# Altium schematic symbol library Table Clock.SchLib: 40 symbols
Pins are listed as number, name and electrical type; pins without a type are passive.

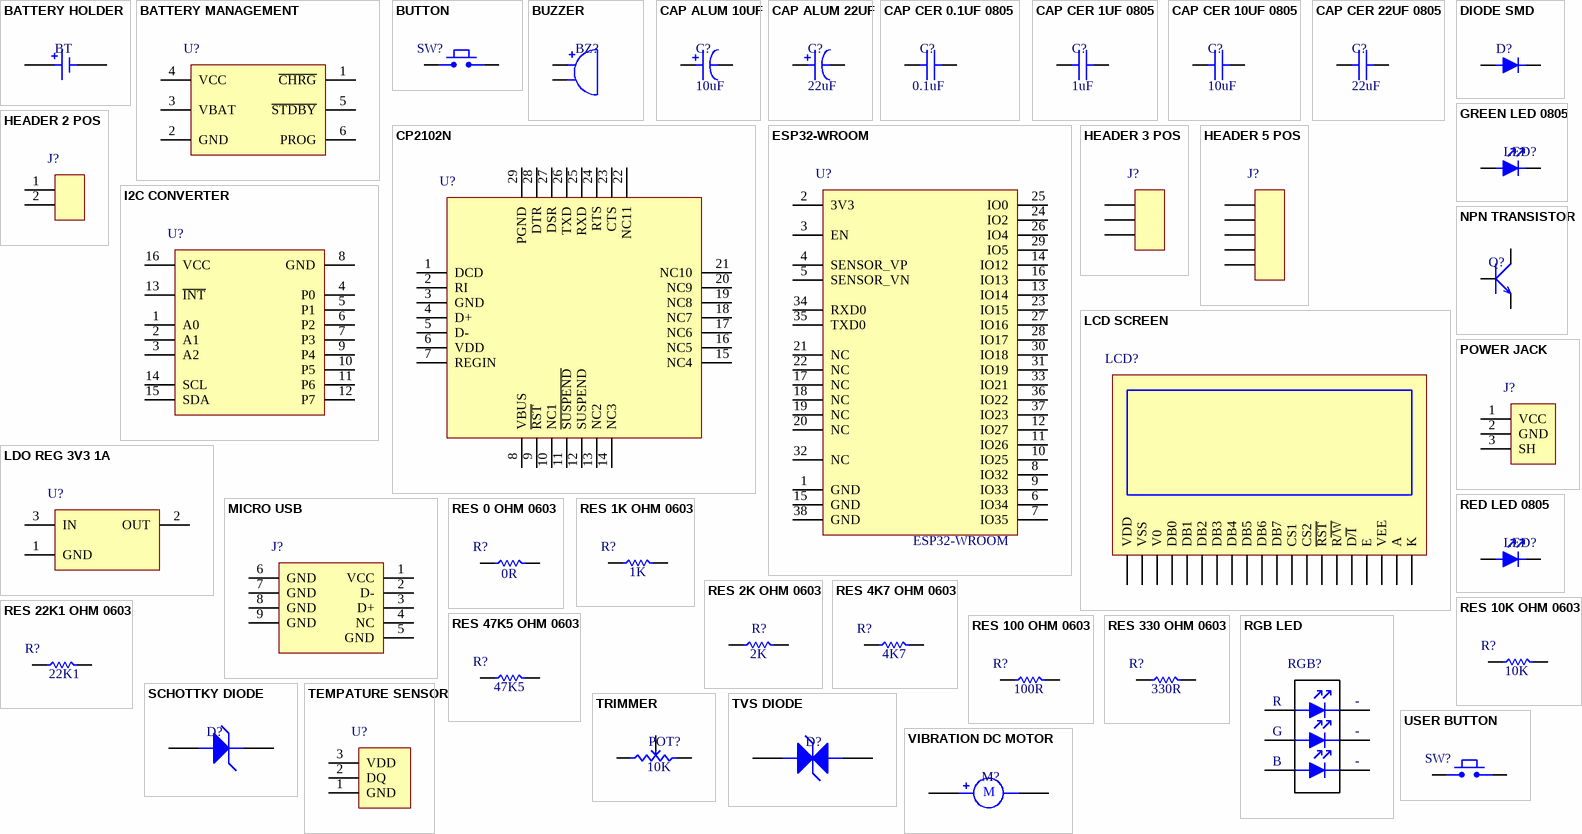
[diagram p0: symbols BATTERY HOLDER to VIBRATION DC MOTOR]

## BATTERY HOLDER
designator BT, comment BH-18650-PC  (value not drawn)
BATTERY HOLDER 18650 PC PIN
footprint BATTERY HOLDER
pins: 1, 2

## BATTERY MANAGEMENT
designator U?, comment TP4057  (value not drawn)
SOT23-6 BATTERY MANAGEMENT
footprint SOT23-6
pins: 1 ~{CHRG}, 2 GND, 3 VBAT, 4 VCC, 5 ~{STDBY}, 6 PROG

## BUTTON
designator SW?, comment PTS636SM43SMTR LFS  (value not drawn)
SWITCH TACTILE 0.05A 12V
footprint BUTTON
pins: 1, 2

## BUZZER
designator BZ?, comment CMI-9605IC-0580T  (value not drawn)
BUZZER MAGNETIC 5V 9.6MM TH
footprint BUZZER
pins: 1, 2

## CAP ALUM 10UF
designator C?, comment value 10uF  (hidden comment: 875105359001)
CAP ALUM 10UF 20% 16V SMD; ComponentLink1Description: New link; ComponentLink1URL: *
footprint CAP ALUM 10UF
pins: 1, 2

## CAP ALUM 22UF
designator C?, comment value 22uF  (hidden comment: A766EB226M1DLAE060)
CAP ALUM 22UF 20% 20V SMD
footprint CAP ALUM 22UF
pins: 1, 2

## CAP CER 0.1UF 0805
designator C?, comment value 0.1uF  (hidden comment: CC0805KRX7R9BB104)
CAP CER 0.1UF 50V X7R 0805
footprint CAP 0805
pins: 1, 2

## CAP CER 1UF 0805
designator C?, comment value 1uF  (hidden comment: CC0805KKX7R9BB105)
CAP CER 1UF 50V X7R 0805
footprint CAP 0805
pins: 1, 2

## CAP CER 10UF 0805
designator C?, comment value 10uF  (hidden comment: CC0805KKX5R8BB106)
CAP CER 10UF 25V X5R 0805
footprint CAP 0805
pins: 1, 2

## CAP CER 22UF 0805
designator C?, comment value 22uF  (hidden comment: GRM21BR61E226ME44L)
CAP CER 22UF 25V X5R 0805
footprint CAP 0805
pins: 1, 2

## CP2102N
designator U?, comment CP2102N-A02-GQFN28  (value not drawn)
IC USB TO UART BRIDGE QFN28
footprint QFN28
pins: 1 DCD, 2 RI, 3 GND, 4 D+, 5 D-, 6 VDD, 7 REGIN, 8 VBUS, 9 ~{RST}, 10 NC1, 11 ~{SUSPEND}, 12 SUSPEND, 13 NC2, 14 NC3, 15 NC4, 16 NC5, 17 NC6, 18 NC7, 19 NC8, 20 NC9, 21 NC10, 22 NC11, 23 CTS, 24 RTS, 25 RXD, 26 TXD, 27 DSR, 28 DTR, 29 PGND

## DIODE SMD
designator D?, comment MBR230LSFT1G  (value not drawn)
DIODE SCHOTTKY 30V 2A
footprint DIODE
pins: 1, 2

## ESP32-WROOM
designator U?, comment value ESP32-WROOM  (hidden comment: ESP32-WROOM-32E-H4)
RF TXRX MOD BT WIFI TH SMD
footprint ESP32
pins: 1 GND, 2 3V3, 3 EN, 4 SENSOR_VP, 5 SENSOR_VN, 6 IO34, 7 IO35, 8 IO32, 9 IO33, 10 IO25, 11 IO26, 12 IO27, 13 IO14, 14 IO12, 15 GND, 16 IO13, 17 NC, 18 NC, 19 NC, 20 NC, 21 NC, 22 NC, 23 IO15, 24 IO2, 25 IO0, 26 IO4, 27 IO16, 28 IO17, 29 IO5, 30 IO18, 31 IO19, 32 NC, 33 IO21, 34 RXD0, 35 TXD0, 36 IO22, 37 IO23, 38 GND

## GREEN LED 0805
designator LED?, comment 150080VS75000  (value not drawn)
LED GREEN 0805 SMD
footprint LED 0805
pins: 1, 2

## HEADER 2 POS
designator J?, comment 61300211121  (value not drawn)
HEADER VERT 2POS 2.54MM
footprint HEADER 2 POS
pins: 1, 2

## HEADER 3 POS
designator J?, comment M20-9990345  (value not drawn)
CONN HEADER VERT 3POS 2.54MM
footprint HEADER 3 POS
pins: 1, 2, 3

## HEADER 5 POS
designator J?, comment 61300511121  (value not drawn)
CONN HEADER 5POS 2.54MM
footprint HEADER 5 POS
pins: 1, 2, 3, 4, 5

## I2C CONVERTER
designator U?, comment PCF8574ADWR  (value not drawn)
IC XPNDR 100KHZ I2C 16SOIC
footprint SOIC-16
pins: 1 A0, 2 A1, 3 A2, 4 P0, 5 P1, 6 P2, 7 P3, 8 GND (power), 9 P4, 10 P5, 11 P6, 12 P7, 13 ~{INT}, 14 SCL, 15 SDA, 16 VCC (power)

## LCD SCREEN
designator LCD?, comment NHD-12864WG-BTFH-V#N  (value not drawn)
GRAPHIC DISPLAY LCD TH
footprint LCD SCREEN
pins: 1 VDD, 2 VSS, 3 V0, 4 DB0, 5 DB1, 6 DB2, 7 DB3, 8 DB4, 9 DB5, 10 DB6, 11 DB7, 12 CS1, 13 CS2, 14 ~{RST}, 15 R~{/W}, 16 D~{/I}, 17 E, 18 VEE, 19 A, 20 K

## LDO REG 3V3 1A
designator U?, comment AMS1117-3.3  (value not drawn)
IC LDO REG 3.3V 1A SOT223 SMD
footprint SOT 223
pins: 1 GND, 2 OUT, 3 IN

## MICRO USB
designator J?, comment UJ2-MIBH-G-SMT-TR  (value not drawn)
USB JACK 2.0 MICRO B TYPE 5 P
footprint MICRO USB
pins: 1 VCC, 2 D-, 3 D+, 4 NC, 5 GND, 6 GND, 7 GND, 8 GND, 9 GND

## NPN TRANSISTOR
designator Q?, comment SS8050-G  (value not drawn)
TRANS NPN 25V 1.5A SOT-23-3
footprint SOT23-3
pins: 1, 2, 3

## POWER JACK
designator J?, comment PJ-036BH-SMT-TR  (value not drawn)
POWER JACK 2.5X5.5MM SOLDER
footprint POWER JACK
pins: 1 VCC, 2 GND, 3 SH

## RED LED 0805
designator LED?, comment 150080RS75000  (value not drawn)
LED RED 0805 SMD
footprint LED 0805
pins: 1, 2

## RES 0 OHM 0603
designator R?, comment value 0R  (hidden comment: RC0603JR-070RL)
RES 0 OHM 1/10W 0603
footprint RES 0603
pins: 1, 2

## RES 1K OHM 0603
designator R?, comment value 1K  (hidden comment: CRGH0603J1K0)
RES 1K OHM 5% 1/5W 0603
footprint RES 0603
pins: 1, 2

## RES 2K OHM 0603
designator R?, comment value 2K  (hidden comment: CRGH0603J2K0)
RES 2K OHM 5% 1/5W 0603
footprint RES 0603
pins: 1, 2

## RES 4K7 OHM 0603
designator R?, comment value 4K7  (hidden comment: CRGH0603J4K7)
RES 4.7K OHM 5% 1/5W 0603
footprint RES 0603
pins: 1, 2

## RES 10K OHM 0603
designator R?, comment value 10K  (hidden comment: CRGH0603J10K)
RES 10K OHM 5% 1/5W 0603
footprint RES 0603
pins: 1, 2

## RES 22K1 OHM 0603
designator R?, comment value 22K1  (hidden comment: ERJ-PB3B2212V)
RES 22.1K OHM 0.1% 1/5W 0603
footprint RES 0603
pins: 1, 2

## RES 47K5 OHM 0603
designator R?, comment value 47K5  (hidden comment: ERJ-PB3B4752V)
RES 47.5K OHM 0.1% 1/5W 0603
footprint RES 0603
pins: 1, 2

## RES 100 OHM 0603
designator R?, comment value 100R  (hidden comment: CRGH0603J100R)
RES 100 OHM 5% 1/5W 0603
footprint RES 0603
pins: 1, 2

## RES 330 OHM 0603
designator R?, comment value 330R  (hidden comment: CRGH0603F330R)
RES 330 OHM 1% 1/5W 0603
footprint RES 0603
pins: 1, 2

## RGB LED
designator RGB?, comment 150353M153300  (value not drawn)
LED RGB SMD
footprint RGB LED
pins: 1, 2, 3, 4, 5, 6
text: R; -; G; B

## SCHOTTKY DIODE
designator D?, comment BAT760-7  (value not drawn)
DIODE SCHOTTKY 30V 1A SOD323
footprint SOD-323
pins: 1, 2

## TEMPATURE SENSOR
designator U?, comment DS18B20  (value not drawn)
SENSOR DIGITAL -55C-125C TO92-3
footprint HEADER 3 POS
pins: 1 GND, 2 DQ, 3 VDD

## TRIMMER
designator POT?, comment value 10K  (hidden comment: 3362P-1-103LF)
TRIMMER 10K OHM 0.5W PC PIN TOP
footprint TRIMMER
pins: 1, 2, 3

## TVS DIODE
designator D?, comment LESD5Z5.0C  (value not drawn)
TVS DIODE 5VWM 16VC SOD523
footprint SOD-523
pins: 1, 2

## USER BUTTON
designator SW?, comment PTS636SM50 LFS  (value not drawn)
SWITCH TACTILE 0.05A 12V
footprint HEADER 2 POS
pins: 1, 2

## VIBRATION DC MOTOR
designator M?, comment HD-EM1003-LW15-R  (value not drawn)
HD MOTOR 3VDC 46OHM 12000RPM
footprint Motor
pins: 1, 2
text: M